# Altium footprint library library.PcbLib: 385 footprints (part 25 of 25)
Each footprint in its own frame and in the unit in brackets; x right, y up, seen from the top. Pads: shape width x height; smd on the part's side, far side on the other; paste and mask are expansions set on the pad; w line width, h text height; cw(c..) or ccw(c..) is an arc to the next point about the centre after c.
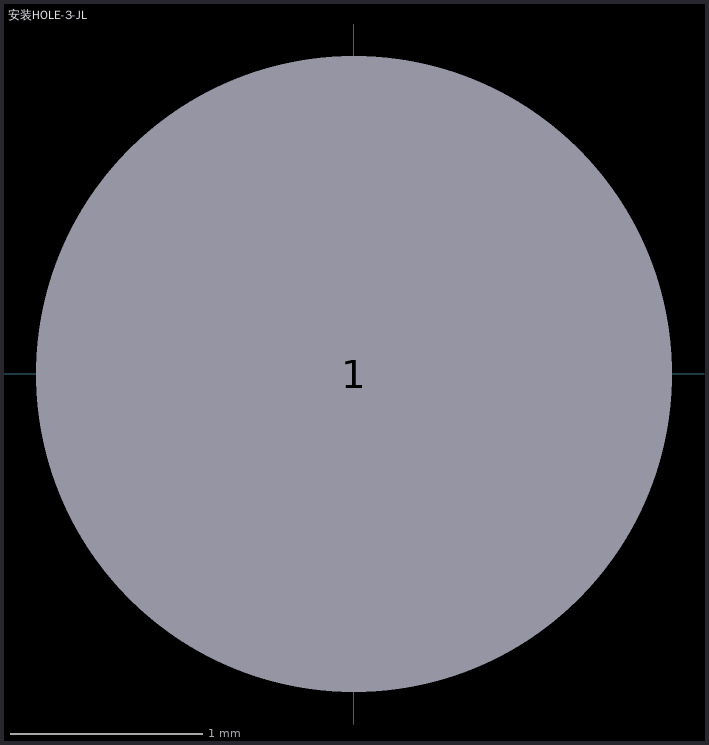
[diagram p24: the footprint, top view; thin cyan lines are the x and y axes]

## 安装HOLE-3-JL [mm]
pads (1):
  round 3.2 hole 3.302 unplated: 1(0,0)